# Altium footprint library BME280.PcbLib: 1 footprints
Each footprint in its own frame and in the unit in brackets; x right, y up, seen from the top. Pads: shape width x height; smd on the part's side, far side on the other; paste and mask are expansions set on the pad; w line width, h text height; cw(c..) or ccw(c..) is an arc to the next point about the centre after c.
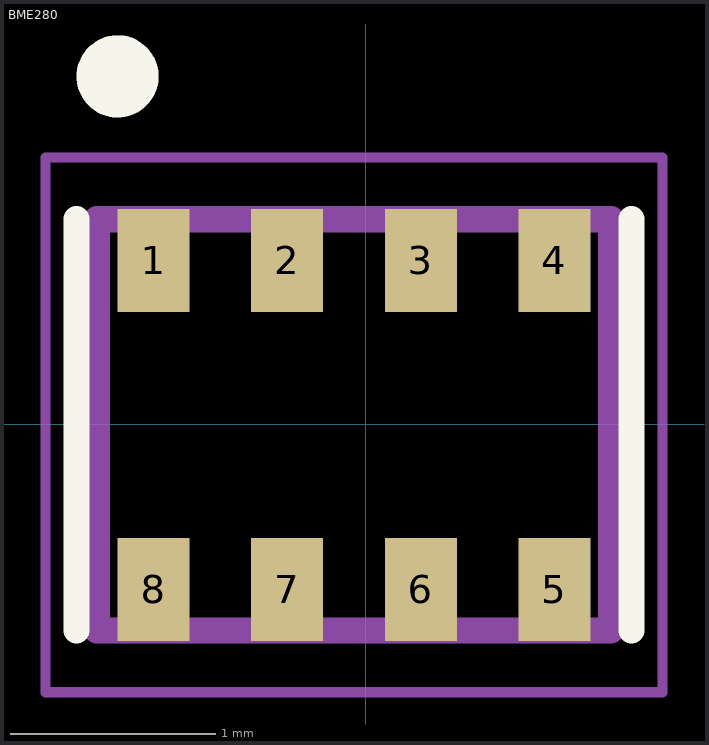
[diagram p0: the footprint, top view; thin cyan lines are the x and y axes]

## BME280 [mm]
pads (8):
  rect 0.35x0.5 smd: 1(-1.031,0.797) 2(-0.381,0.797) 3(0.269,0.797) 4(0.919,0.797) 5(0.919,-0.803) 6(0.269,-0.803) 7(-0.381,-0.803) 8(-1.031,-0.803)
Top Overlay:
  circle w0.2: c-1.206,1.692 r0.1
  lines w0.127: -1.406,-1.003 -1.406,0.997 ; 1.294,-1.003 1.294,0.997
Mechanical 13:
  lines w0.127: -1.306,-1.003 1.194,-1.003 1.194,0.997 -1.306,0.997 -1.306,-1.003
Mechanical 15:
  lines w0.05: -1.556,-1.303 -1.556,1.297 1.444,1.297 1.444,-1.303 -1.556,-1.303